# Altium footprint library FQFP (0.4mm Pitch, Square) - Corner Index.PcbLib: 26 footprints (part 1 of 3)
Each footprint in its own frame and in the unit in brackets; x right, y up, seen from the top. Pads: shape width x height; smd on the part's side, far side on the other; paste and mask are expansions set on the pad; w line width, h text height; cw(c..) or ccw(c..) is an arc to the next point about the centre after c.
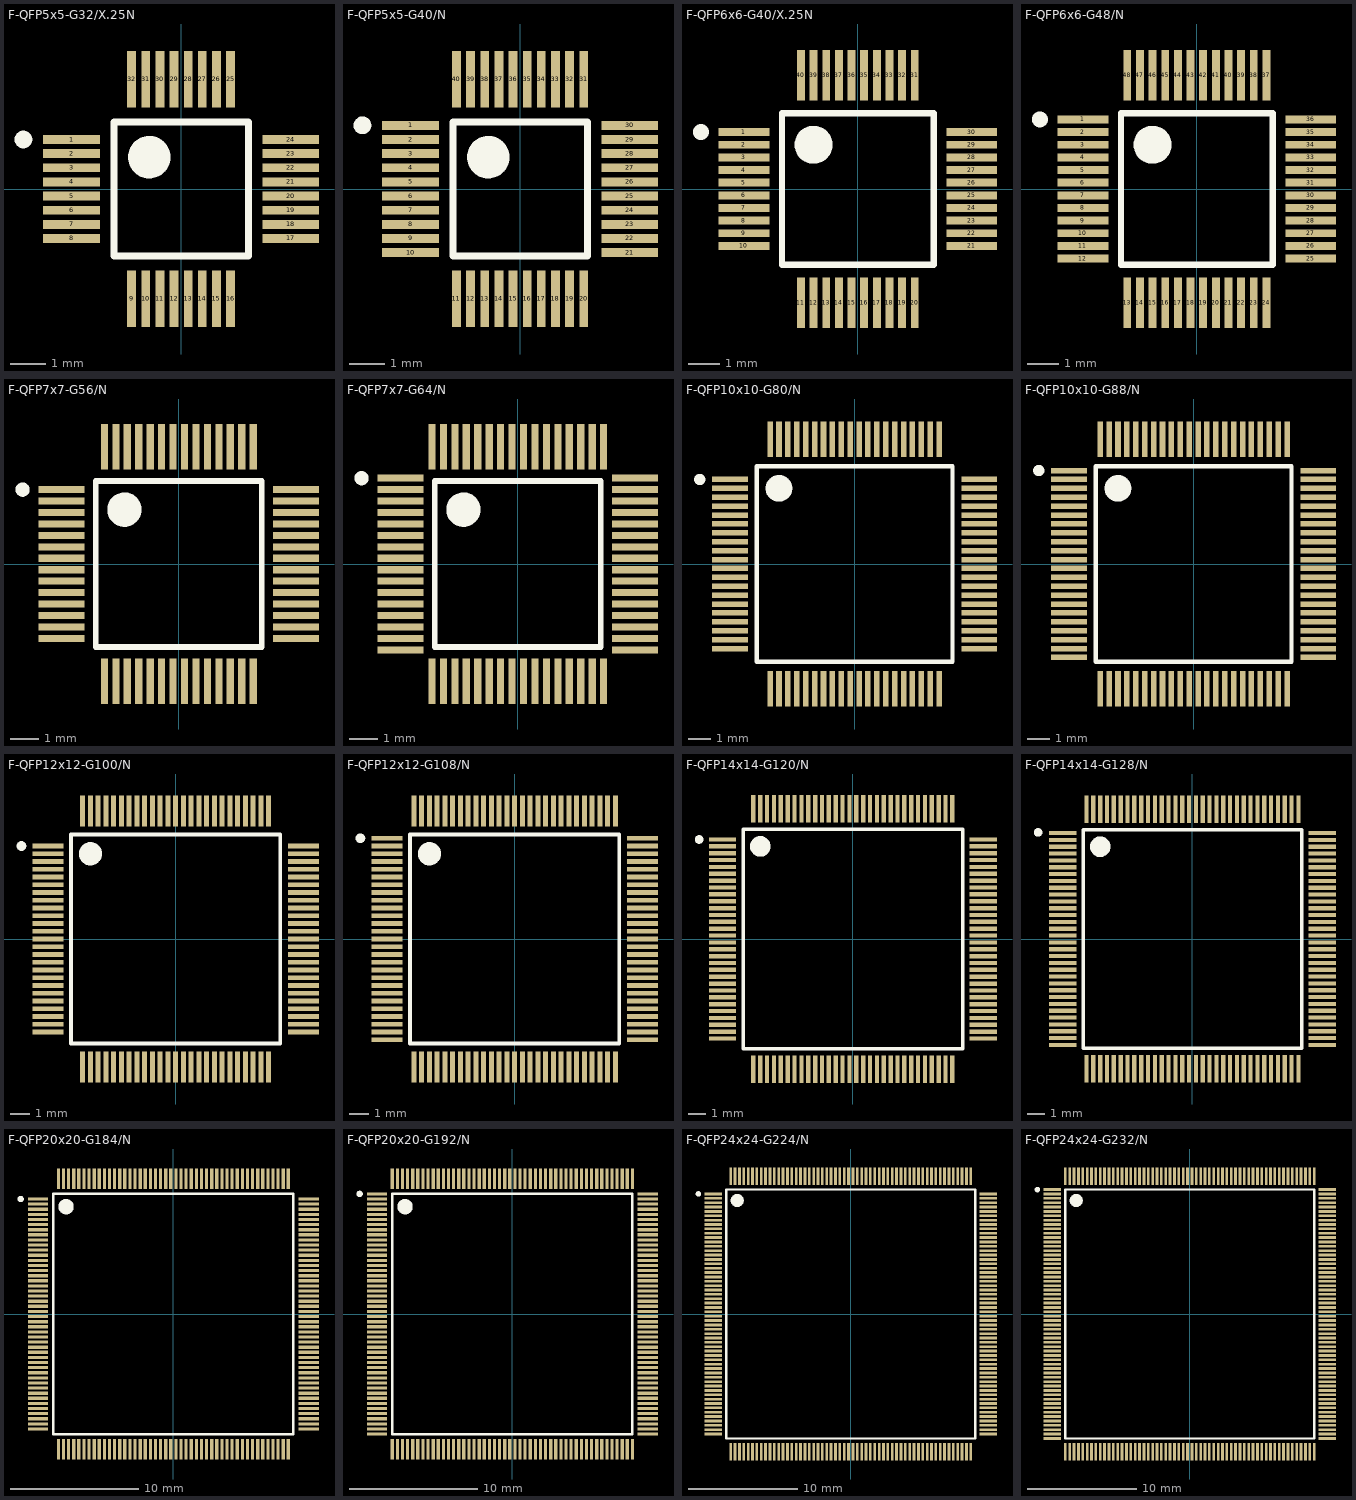
[diagram p0: the footprints below, top view; thin cyan lines are the x and y axes]

## F-QFP5x5-G32/X.25N [mm] "QFP; 32 Leads; Body 5 x 5 mm; Pitch 0.4 mm"
height 1.7
pads (32):
  rect 1.6x0.25 smd: 1(-3.1,1.4) 2(-3.1,1) 3(-3.1,0.6) 4(-3.1,0.2) 5(-3.1,-0.2) 6(-3.1,-0.6) 7(-3.1,-1) 8(-3.1,-1.4) 17(3.1,-1.4) 18(3.1,-1) 19(3.1,-0.6) 20(3.1,-0.2) 21(3.1,0.2) 22(3.1,0.6) 23(3.1,1) 24(3.1,1.4)
  rect 0.25x1.6 smd: 9(-1.4,-3.1) 10(-1,-3.1) 11(-0.6,-3.1) 12(-0.2,-3.1) 13(0.2,-3.1) 14(0.6,-3.1) 15(1,-3.1) 16(1.4,-3.1) 25(1.4,3.1) 26(1,3.1) 27(0.6,3.1) 28(0.2,3.1) 29(-0.2,3.1) 30(-0.6,3.1) 31(-1,3.1) 32(-1.4,3.1)
Top Overlay:
  circle w0.25: c-4.46,1.4 r0.125
  circle w0.6: c-0.9,0.9 r0.3
  lines w0.2: -1.9,-1.9 1.9,-1.9 1.9,1.9 -1.9,1.9 -1.9,-1.9

## F-QFP5x5-G40/N [mm] "QFP; 40 Leads; Body 5 x 5 mm; Pitch 0.4 mm"
height 1.7
pads (40):
  rect 1.6x0.25 smd: 1(-3.1,1.8) 2(-3.1,1.4) 3(-3.1,1) 4(-3.1,0.6) 5(-3.1,0.2) 6(-3.1,-0.2) 7(-3.1,-0.6) 8(-3.1,-1) 9(-3.1,-1.4) 10(-3.1,-1.8) 21(3.1,-1.8) 22(3.1,-1.4) 23(3.1,-1) 24(3.1,-0.6) 25(3.1,-0.2) 26(3.1,0.2) 27(3.1,0.6) 28(3.1,1) 29(3.1,1.4) 30(3.1,1.8)
  rect 0.25x1.6 smd: 11(-1.8,-3.1) 12(-1.4,-3.1) 13(-1,-3.1) 14(-0.6,-3.1) 15(-0.2,-3.1) 16(0.2,-3.1) 17(0.6,-3.1) 18(1,-3.1) 19(1.4,-3.1) 20(1.8,-3.1) 31(1.8,3.1) 32(1.4,3.1) 33(1,3.1) 34(0.6,3.1) 35(0.2,3.1) 36(-0.2,3.1) 37(-0.6,3.1) 38(-1,3.1) 39(-1.4,3.1) 40(-1.8,3.1)
Top Overlay:
  circle w0.25: c-4.46,1.8 r0.125
  circle w0.6: c-0.9,0.9 r0.3
  lines w0.2: -1.9,-1.9 -1.9,1.9 1.9,1.9 1.9,-1.9 -1.9,-1.9

## F-QFP6x6-G40/X.25N [mm] "QFP; 40 Leads; Body 6 x 6 mm; Pitch 0.4 mm"
height 1.7
pads (40):
  rect 1.6x0.25 smd: 1(-3.6,1.8) 2(-3.6,1.4) 3(-3.6,1) 4(-3.6,0.6) 5(-3.6,0.2) 6(-3.6,-0.2) 7(-3.6,-0.6) 8(-3.6,-1) 9(-3.6,-1.4) 10(-3.6,-1.8) 21(3.6,-1.8) 22(3.6,-1.4) 23(3.6,-1) 24(3.6,-0.6) 25(3.6,-0.2) 26(3.6,0.2) 27(3.6,0.6) 28(3.6,1) 29(3.6,1.4) 30(3.6,1.8)
  rect 0.25x1.6 smd: 11(-1.8,-3.6) 12(-1.4,-3.6) 13(-1,-3.6) 14(-0.6,-3.6) 15(-0.2,-3.6) 16(0.2,-3.6) 17(0.6,-3.6) 18(1,-3.6) 19(1.4,-3.6) 20(1.8,-3.6) 31(1.8,3.6) 32(1.4,3.6) 33(1,3.6) 34(0.6,3.6) 35(0.2,3.6) 36(-0.2,3.6) 37(-0.6,3.6) 38(-1,3.6) 39(-1.4,3.6) 40(-1.8,3.6)
Top Overlay:
  circle w0.25: c-4.96,1.8 r0.125
  circle w0.6: c-1.4,1.4 r0.3
  lines w0.2: -2.4,-2.4 -2.4,2.4 2.4,2.4 2.4,-2.4 -2.4,-2.4

## F-QFP6x6-G48/N [mm] "QFP; 48 Leads; Body 6 x 6 mm; Pitch 0.4 mm"
height 1.7
pads (48):
  rect 1.6x0.25 smd: 1(-3.6,2.2) 2(-3.6,1.8) 3(-3.6,1.4) 4(-3.6,1) 5(-3.6,0.6) 6(-3.6,0.2) 7(-3.6,-0.2) 8(-3.6,-0.6) 9(-3.6,-1) 10(-3.6,-1.4) 11(-3.6,-1.8) 12(-3.6,-2.2) 25(3.6,-2.2) 26(3.6,-1.8) 27(3.6,-1.4) 28(3.6,-1) 29(3.6,-0.6) 30(3.6,-0.2) 31(3.6,0.2) 32(3.6,0.6) 33(3.6,1) 34(3.6,1.4) 35(3.6,1.8) 36(3.6,2.2)
  rect 0.25x1.6 smd: 13(-2.2,-3.6) 14(-1.8,-3.6) 15(-1.4,-3.6) 16(-1,-3.6) 17(-0.6,-3.6) 18(-0.2,-3.6) 19(0.2,-3.6) 20(0.6,-3.6) 21(1,-3.6) 22(1.4,-3.6) 23(1.8,-3.6) 24(2.2,-3.6) 37(2.2,3.6) 38(1.8,3.6) 39(1.4,3.6) 40(1,3.6) 41(0.6,3.6) 42(0.2,3.6) 43(-0.2,3.6) 44(-0.6,3.6) 45(-1,3.6) 46(-1.4,3.6) 47(-1.8,3.6) 48(-2.2,3.6)
Top Overlay:
  circle w0.25: c-4.96,2.2 r0.125
  circle w0.6: c-1.4,1.4 r0.3
  lines w0.2: -2.4,-2.4 -2.4,2.4 2.4,2.4 2.4,-2.4 -2.4,-2.4

## F-QFP7x7-G56/N [mm] "QFP; 56 Leads; Body 7 x 7 mm; Pitch 0.4 mm"
height 1.7
pads (56):
  rect 1.6x0.25 smd: 1(-4.1,2.6) 2(-4.1,2.2) 3(-4.1,1.8) 4(-4.1,1.4) 5(-4.1,1) 6(-4.1,0.6) 7(-4.1,0.2) 8(-4.1,-0.2) 9(-4.1,-0.6) 10(-4.1,-1) 11(-4.1,-1.4) 12(-4.1,-1.8) 13(-4.1,-2.2) 14(-4.1,-2.6) 29(4.1,-2.6) 30(4.1,-2.2) 31(4.1,-1.8) 32(4.1,-1.4) 33(4.1,-1) 34(4.1,-0.6) 35(4.1,-0.2) 36(4.1,0.2) 37(4.1,0.6) 38(4.1,1) 39(4.1,1.4) 40(4.1,1.8) 41(4.1,2.2) 42(4.1,2.6)
  rect 0.25x1.6 smd: 15(-2.6,-4.1) 16(-2.2,-4.1) 17(-1.8,-4.1) 18(-1.4,-4.1) 19(-1,-4.1) 20(-0.6,-4.1) 21(-0.2,-4.1) 22(0.2,-4.1) 23(0.6,-4.1) 24(1,-4.1) 25(1.4,-4.1) 26(1.8,-4.1) 27(2.2,-4.1) 28(2.6,-4.1) 43(2.6,4.1) 44(2.2,4.1) 45(1.8,4.1) 46(1.4,4.1) 47(1,4.1) 48(0.6,4.1) 49(0.2,4.1) 50(-0.2,4.1) 51(-0.6,4.1) 52(-1,4.1) 53(-1.4,4.1) 54(-1.8,4.1) 55(-2.2,4.1) 56(-2.6,4.1)
Top Overlay:
  circle w0.25: c-5.46,2.6 r0.125
  circle w0.6: c-1.9,1.9 r0.3
  lines w0.2: -2.9,-2.9 -2.9,2.9 2.9,2.9 2.9,-2.9 -2.9,-2.9

## F-QFP7x7-G64/N [mm] "QFP; 64 Leads; Body 7 x 7 mm; Pitch 0.4 mm"
height 1.7
pads (64):
  rect 1.6x0.25 smd: 1(-4.1,3) 2(-4.1,2.6) 3(-4.1,2.2) 4(-4.1,1.8) 5(-4.1,1.4) 6(-4.1,1) 7(-4.1,0.6) 8(-4.1,0.2) 9(-4.1,-0.2) 10(-4.1,-0.6) 11(-4.1,-1) 12(-4.1,-1.4) 13(-4.1,-1.8) 14(-4.1,-2.2) 15(-4.1,-2.6) 16(-4.1,-3) 33(4.1,-3) 34(4.1,-2.6) 35(4.1,-2.2) 36(4.1,-1.8) 37(4.1,-1.4) 38(4.1,-1) 39(4.1,-0.6) 40(4.1,-0.2) 41(4.1,0.2) 42(4.1,0.6) 43(4.1,1) 44(4.1,1.4) 45(4.1,1.8) 46(4.1,2.2) 47(4.1,2.6) 48(4.1,3)
  rect 0.25x1.6 smd: 17(-3,-4.1) 18(-2.6,-4.1) 19(-2.2,-4.1) 20(-1.8,-4.1) 21(-1.4,-4.1) 22(-1,-4.1) 23(-0.6,-4.1) 24(-0.2,-4.1) 25(0.2,-4.1) 26(0.6,-4.1) 27(1,-4.1) 28(1.4,-4.1) 29(1.8,-4.1) 30(2.2,-4.1) 31(2.6,-4.1) 32(3,-4.1) 49(3,4.1) 50(2.6,4.1) 51(2.2,4.1) 52(1.8,4.1) 53(1.4,4.1) 54(1,4.1) 55(0.6,4.1) 56(0.2,4.1) 57(-0.2,4.1) 58(-0.6,4.1) 59(-1,4.1) 60(-1.4,4.1) 61(-1.8,4.1) 62(-2.2,4.1) 63(-2.6,4.1) 64(-3,4.1)
Top Overlay:
  circle w0.25: c-5.46,3 r0.125
  circle w0.6: c-1.9,1.9 r0.3
  lines w0.2: -2.9,-2.9 -2.9,2.9 2.9,2.9 2.9,-2.9 -2.9,-2.9

## F-QFP10x10-G80/N [mm] "QFP; 80 Leads; Body 10 x 10 mm; Pitch 0.4 mm"
height 2.2
pads (80):
  rect 1.6x0.25 smd: 1(-5.6,3.8) 2(-5.6,3.4) 3(-5.6,3) 4(-5.6,2.6) 5(-5.6,2.2) 6(-5.6,1.8) 7(-5.6,1.4) 8(-5.6,1) 9(-5.6,0.6) 10(-5.6,0.2) 11(-5.6,-0.2) 12(-5.6,-0.6) 13(-5.6,-1) 14(-5.6,-1.4) 15(-5.6,-1.8) 16(-5.6,-2.2) 17(-5.6,-2.6) 18(-5.6,-3) 19(-5.6,-3.4) 20(-5.6,-3.8) 41(5.6,-3.8) 42(5.6,-3.4) 43(5.6,-3) 44(5.6,-2.6) 45(5.6,-2.2) 46(5.6,-1.8) 47(5.6,-1.4) 48(5.6,-1) 49(5.6,-0.6) 50(5.6,-0.2) 51(5.6,0.2) 52(5.6,0.6) 53(5.6,1) 54(5.6,1.4) 55(5.6,1.8) 56(5.6,2.2) 57(5.6,2.6) 58(5.6,3) 59(5.6,3.4) 60(5.6,3.8)
  rect 0.25x1.6 smd: 21(-3.8,-5.6) 22(-3.4,-5.6) 23(-3,-5.6) 24(-2.6,-5.6) 25(-2.2,-5.6) 26(-1.8,-5.6) 27(-1.4,-5.6) 28(-1,-5.6) 29(-0.6,-5.6) 30(-0.2,-5.6) 31(0.2,-5.6) 32(0.6,-5.6) 33(1,-5.6) 34(1.4,-5.6) 35(1.8,-5.6) 36(2.2,-5.6) 37(2.6,-5.6) 38(3,-5.6) 39(3.4,-5.6) 40(3.8,-5.6) 61(3.8,5.6) 62(3.4,5.6) 63(3,5.6) 64(2.6,5.6) 65(2.2,5.6) 66(1.8,5.6) 67(1.4,5.6) 68(1,5.6) 69(0.6,5.6) 70(0.2,5.6) 71(-0.2,5.6) 72(-0.6,5.6) 73(-1,5.6) 74(-1.4,5.6) 75(-1.8,5.6) 76(-2.2,5.6) 77(-2.6,5.6) 78(-3,5.6) 79(-3.4,5.6) 80(-3.8,5.6)
Top Overlay:
  circle w0.6: c-3.4,3.4 r0.3
  circle w0.25: c-6.96,3.8 r0.125
  lines w0.2: -4.4,-4.4 4.4,-4.4 4.4,4.4 -4.4,4.4 -4.4,-4.4

## F-QFP10x10-G88/N [mm] "QFP; 88 Leads; Body 10 x 10 mm; Pitch 0.4 mm"
height 2.2
pads (88):
  rect 1.6x0.25 smd: 1(-5.6,4.2) 2(-5.6,3.8) 3(-5.6,3.4) 4(-5.6,3) 5(-5.6,2.6) 6(-5.6,2.2) 7(-5.6,1.8) 8(-5.6,1.4) 9(-5.6,1) 10(-5.6,0.6) 11(-5.6,0.2) 12(-5.6,-0.2) 13(-5.6,-0.6) 14(-5.6,-1) 15(-5.6,-1.4) 16(-5.6,-1.8) 17(-5.6,-2.2) 18(-5.6,-2.6) 19(-5.6,-3) 20(-5.6,-3.4) 21(-5.6,-3.8) 22(-5.6,-4.2) 45(5.6,-4.2) 46(5.6,-3.8) 47(5.6,-3.4) 48(5.6,-3) 49(5.6,-2.6) 50(5.6,-2.2) 51(5.6,-1.8) 52(5.6,-1.4) 53(5.6,-1) 54(5.6,-0.6) 55(5.6,-0.2) 56(5.6,0.2) 57(5.6,0.6) 58(5.6,1) 59(5.6,1.4) 60(5.6,1.8) 61(5.6,2.2) 62(5.6,2.6) 63(5.6,3) 64(5.6,3.4) 65(5.6,3.8) 66(5.6,4.2)
  rect 0.25x1.6 smd: 23(-4.2,-5.6) 24(-3.8,-5.6) 25(-3.4,-5.6) 26(-3,-5.6) 27(-2.6,-5.6) 28(-2.2,-5.6) 29(-1.8,-5.6) 30(-1.4,-5.6) 31(-1,-5.6) 32(-0.6,-5.6) 33(-0.2,-5.6) 34(0.2,-5.6) 35(0.6,-5.6) 36(1,-5.6) 37(1.4,-5.6) 38(1.8,-5.6) 39(2.2,-5.6) 40(2.6,-5.6) 41(3,-5.6) 42(3.4,-5.6) 43(3.8,-5.6) 44(4.2,-5.6) 67(4.2,5.6) 68(3.8,5.6) 69(3.4,5.6) 70(3,5.6) 71(2.6,5.6) 72(2.2,5.6) 73(1.8,5.6) 74(1.4,5.6) 75(1,5.6) 76(0.6,5.6) 77(0.2,5.6) 78(-0.2,5.6) 79(-0.6,5.6) 80(-1,5.6) 81(-1.4,5.6) 82(-1.8,5.6) 83(-2.2,5.6) 84(-2.6,5.6) 85(-3,5.6) 86(-3.4,5.6) 87(-3.8,5.6) 88(-4.2,5.6)
Top Overlay:
  circle w0.6: c-3.4,3.4 r0.3
  circle w0.25: c-6.96,4.2 r0.125
  lines w0.2: -4.4,-4.4 4.4,-4.4 4.4,4.4 -4.4,4.4 -4.4,-4.4

## F-QFP12x12-G100/N [mm] "QFP; 100 Leads; Body 12 x 12 mm; Pitch 0.4 mm"
height 2.2
pads (100):
  rect 1.6x0.25 smd: 1(-6.6,4.8) 2(-6.6,4.4) 3(-6.6,4) 4(-6.6,3.6) 5(-6.6,3.2) 6(-6.6,2.8) 7(-6.6,2.4) 8(-6.6,2) 9(-6.6,1.6) 10(-6.6,1.2) 11(-6.6,0.8) 12(-6.6,0.4) 13(-6.6,0) 14(-6.6,-0.4) 15(-6.6,-0.8) 16(-6.6,-1.2) 17(-6.6,-1.6) 18(-6.6,-2) 19(-6.6,-2.4) 20(-6.6,-2.8) 21(-6.6,-3.2) 22(-6.6,-3.6) 23(-6.6,-4) 24(-6.6,-4.4) 25(-6.6,-4.8) 51(6.6,-4.8) 52(6.6,-4.4) 53(6.6,-4) 54(6.6,-3.6) 55(6.6,-3.2) 56(6.6,-2.8) 57(6.6,-2.4) 58(6.6,-2) 59(6.6,-1.6) 60(6.6,-1.2) 61(6.6,-0.8) 62(6.6,-0.4) 63(6.6,0) 64(6.6,0.4) 65(6.6,0.8) 66(6.6,1.2) 67(6.6,1.6) 68(6.6,2) 69(6.6,2.4) 70(6.6,2.8) 71(6.6,3.2) 72(6.6,3.6) 73(6.6,4) 74(6.6,4.4) 75(6.6,4.8)
  rect 0.25x1.6 smd: 26(-4.8,-6.6) 27(-4.4,-6.6) 28(-4,-6.6) 29(-3.6,-6.6) 30(-3.2,-6.6) 31(-2.8,-6.6) 32(-2.4,-6.6) 33(-2,-6.6) 34(-1.6,-6.6) 35(-1.2,-6.6) 36(-0.8,-6.6) 37(-0.4,-6.6) 38(0,-6.6) 39(0.4,-6.6) 40(0.8,-6.6) 41(1.2,-6.6) 42(1.6,-6.6) 43(2,-6.6) 44(2.4,-6.6) 45(2.8,-6.6) 46(3.2,-6.6) 47(3.6,-6.6) 48(4,-6.6) 49(4.4,-6.6) 50(4.8,-6.6) 76(4.8,6.6) 77(4.4,6.6) 78(4,6.6) 79(3.6,6.6) 80(3.2,6.6) 81(2.8,6.6) 82(2.4,6.6) 83(2,6.6) 84(1.6,6.6) 85(1.2,6.6) 86(0.8,6.6) 87(0.4,6.6) 88(0,6.6) 89(-0.4,6.6) 90(-0.8,6.6) 91(-1.2,6.6) 92(-1.6,6.6) 93(-2,6.6) 94(-2.4,6.6) 95(-2.8,6.6) 96(-3.2,6.6) 97(-3.6,6.6) 98(-4,6.6) 99(-4.4,6.6) 100(-4.8,6.6)
Top Overlay:
  circle w0.6: c-4.4,4.4 r0.3
  circle w0.25: c-7.96,4.8 r0.125
  lines w0.2: -5.4,-5.4 5.4,-5.4 5.4,5.4 -5.4,5.4 -5.4,-5.4

## F-QFP12x12-G108/N [mm] "QFP; 108 Leads; Body 12 x 12 mm; Pitch 0.4 mm"
height 2.2
pads (108):
  rect 1.6x0.25 smd: 1(-6.6,5.2) 2(-6.6,4.8) 3(-6.6,4.4) 4(-6.6,4) 5(-6.6,3.6) 6(-6.6,3.2) 7(-6.6,2.8) 8(-6.6,2.4) 9(-6.6,2) 10(-6.6,1.6) 11(-6.6,1.2) 12(-6.6,0.8) 13(-6.6,0.4) 14(-6.6,0) 15(-6.6,-0.4) 16(-6.6,-0.8) 17(-6.6,-1.2) 18(-6.6,-1.6) 19(-6.6,-2) 20(-6.6,-2.4) 21(-6.6,-2.8) 22(-6.6,-3.2) 23(-6.6,-3.6) 24(-6.6,-4) 25(-6.6,-4.4) 26(-6.6,-4.8) 27(-6.6,-5.2) 55(6.6,-5.2) 56(6.6,-4.8) 57(6.6,-4.4) 58(6.6,-4) 59(6.6,-3.6) 60(6.6,-3.2) 61(6.6,-2.8) 62(6.6,-2.4) 63(6.6,-2) 64(6.6,-1.6) 65(6.6,-1.2) 66(6.6,-0.8) 67(6.6,-0.4) 68(6.6,0) 69(6.6,0.4) 70(6.6,0.8) 71(6.6,1.2) 72(6.6,1.6) 73(6.6,2) 74(6.6,2.4) 75(6.6,2.8) 76(6.6,3.2) 77(6.6,3.6) 78(6.6,4) 79(6.6,4.4) 80(6.6,4.8) 81(6.6,5.2)
  rect 0.25x1.6 smd: 28(-5.2,-6.6) 29(-4.8,-6.6) 30(-4.4,-6.6) 31(-4,-6.6) 32(-3.6,-6.6) 33(-3.2,-6.6) 34(-2.8,-6.6) 35(-2.4,-6.6) 36(-2,-6.6) 37(-1.6,-6.6) 38(-1.2,-6.6) 39(-0.8,-6.6) 40(-0.4,-6.6) 41(0,-6.6) 42(0.4,-6.6) 43(0.8,-6.6) 44(1.2,-6.6) 45(1.6,-6.6) 46(2,-6.6) 47(2.4,-6.6) 48(2.8,-6.6) 49(3.2,-6.6) 50(3.6,-6.6) 51(4,-6.6) 52(4.4,-6.6) 53(4.8,-6.6) 54(5.2,-6.6) 82(5.2,6.6) 83(4.8,6.6) 84(4.4,6.6) 85(4,6.6) 86(3.6,6.6) 87(3.2,6.6) 88(2.8,6.6) 89(2.4,6.6) 90(2,6.6) 91(1.6,6.6) 92(1.2,6.6) 93(0.8,6.6) 94(0.4,6.6) 95(0,6.6) 96(-0.4,6.6) 97(-0.8,6.6) 98(-1.2,6.6) 99(-1.6,6.6) 100(-2,6.6) 101(-2.4,6.6) 102(-2.8,6.6) 103(-3.2,6.6) 104(-3.6,6.6) 105(-4,6.6) 106(-4.4,6.6) 107(-4.8,6.6) 108(-5.2,6.6)
Top Overlay:
  circle w0.6: c-4.4,4.4 r0.3
  circle w0.25: c-7.96,5.2 r0.125
  lines w0.2: -5.4,-5.4 5.4,-5.4 5.4,5.4 -5.4,5.4 -5.4,-5.4

## F-QFP14x14-G120/N [mm] "QFP; 120 Leads; Body 14 x 14 mm; Pitch 0.4 mm"
height 2.2
pads (120):
  rect 1.6x0.25 smd: 1(-7.6,5.8) 2(-7.6,5.4) 3(-7.6,5) 4(-7.6,4.6) 5(-7.6,4.2) 6(-7.6,3.8) 7(-7.6,3.4) 8(-7.6,3) 9(-7.6,2.6) 10(-7.6,2.2) 11(-7.6,1.8) 12(-7.6,1.4) 13(-7.6,1) 14(-7.6,0.6) 15(-7.6,0.2) 16(-7.6,-0.2) 17(-7.6,-0.6) 18(-7.6,-1) 19(-7.6,-1.4) 20(-7.6,-1.8) 21(-7.6,-2.2) 22(-7.6,-2.6) 23(-7.6,-3) 24(-7.6,-3.4) 25(-7.6,-3.8) 26(-7.6,-4.2) 27(-7.6,-4.6) 28(-7.6,-5) 29(-7.6,-5.4) 30(-7.6,-5.8) 61(7.6,-5.8) 62(7.6,-5.4) 63(7.6,-5) 64(7.6,-4.6) 65(7.6,-4.2) 66(7.6,-3.8) 67(7.6,-3.4) 68(7.6,-3) 69(7.6,-2.6) 70(7.6,-2.2) 71(7.6,-1.8) 72(7.6,-1.4) 73(7.6,-1) 74(7.6,-0.6) 75(7.6,-0.2) 76(7.6,0.2) 77(7.6,0.6) 78(7.6,1) 79(7.6,1.4) 80(7.6,1.8) 81(7.6,2.2) 82(7.6,2.6) 83(7.6,3) 84(7.6,3.4) 85(7.6,3.8) 86(7.6,4.2) 87(7.6,4.6) 88(7.6,5) 89(7.6,5.4) 90(7.6,5.8)
  rect 0.25x1.6 smd: 31(-5.8,-7.6) 32(-5.4,-7.6) 33(-5,-7.6) 34(-4.6,-7.6) 35(-4.2,-7.6) 36(-3.8,-7.6) 37(-3.4,-7.6) 38(-3,-7.6) 39(-2.6,-7.6) 40(-2.2,-7.6) 41(-1.8,-7.6) 42(-1.4,-7.6) 43(-1,-7.6) 44(-0.6,-7.6) 45(-0.2,-7.6) 46(0.2,-7.6) 47(0.6,-7.6) 48(1,-7.6) 49(1.4,-7.6) 50(1.8,-7.6) 51(2.2,-7.6) 52(2.6,-7.6) 53(3,-7.6) 54(3.4,-7.6) 55(3.8,-7.6) 56(4.2,-7.6) 57(4.6,-7.6) 58(5,-7.6) 59(5.4,-7.6) 60(5.8,-7.6) 91(5.8,7.6) 92(5.4,7.6) 93(5,7.6) 94(4.6,7.6) 95(4.2,7.6) 96(3.8,7.6) 97(3.4,7.6) 98(3,7.6) 99(2.6,7.6) 100(2.2,7.6) 101(1.8,7.6) 102(1.4,7.6) 103(1,7.6) 104(0.6,7.6) 105(0.2,7.6) 106(-0.2,7.6) 107(-0.6,7.6) 108(-1,7.6) 109(-1.4,7.6) 110(-1.8,7.6) 111(-2.2,7.6) 112(-2.6,7.6) 113(-3,7.6) 114(-3.4,7.6) 115(-3.8,7.6) 116(-4.2,7.6) 117(-4.6,7.6) 118(-5,7.6) 119(-5.4,7.6) 120(-5.8,7.6)
Top Overlay:
  circle w0.25: c-8.96,5.8 r0.125
  circle w0.6: c-5.4,5.4 r0.3
  lines w0.2: -6.4,-6.4 -6.4,6.4 6.4,6.4 6.4,-6.4 -6.4,-6.4

## F-QFP14x14-G128/N [mm] "QFP; 128 Leads; Body 14 x 14 mm; Pitch 0.4 mm"
height 2.2
pads (128):
  rect 1.6x0.25 smd: 1(-7.6,6.2) 2(-7.6,5.8) 3(-7.6,5.4) 4(-7.6,5) 5(-7.6,4.6) 6(-7.6,4.2) 7(-7.6,3.8) 8(-7.6,3.4) 9(-7.6,3) 10(-7.6,2.6) 11(-7.6,2.2) 12(-7.6,1.8) 13(-7.6,1.4) 14(-7.6,1) 15(-7.6,0.6) 16(-7.6,0.2) 17(-7.6,-0.2) 18(-7.6,-0.6) 19(-7.6,-1) 20(-7.6,-1.4) 21(-7.6,-1.8) 22(-7.6,-2.2) 23(-7.6,-2.6) 24(-7.6,-3) 25(-7.6,-3.4) 26(-7.6,-3.8) 27(-7.6,-4.2) 28(-7.6,-4.6) 29(-7.6,-5) 30(-7.6,-5.4) 31(-7.6,-5.8) 32(-7.6,-6.2) 65(7.6,-6.2) 66(7.6,-5.8) 67(7.6,-5.4) 68(7.6,-5) 69(7.6,-4.6) 70(7.6,-4.2) 71(7.6,-3.8) 72(7.6,-3.4) 73(7.6,-3) 74(7.6,-2.6) 75(7.6,-2.2) 76(7.6,-1.8) 77(7.6,-1.4) 78(7.6,-1) 79(7.6,-0.6) 80(7.6,-0.2) 81(7.6,0.2) 82(7.6,0.6) 83(7.6,1) 84(7.6,1.4) 85(7.6,1.8) 86(7.6,2.2) 87(7.6,2.6) 88(7.6,3) 89(7.6,3.4) 90(7.6,3.8) 91(7.6,4.2) 92(7.6,4.6) 93(7.6,5) 94(7.6,5.4) 95(7.6,5.8) 96(7.6,6.2)
  rect 0.25x1.6 smd: 33(-6.2,-7.6) 34(-5.8,-7.6) 35(-5.4,-7.6) 36(-5,-7.6) 37(-4.6,-7.6) 38(-4.2,-7.6) 39(-3.8,-7.6) 40(-3.4,-7.6) 41(-3,-7.6) 42(-2.6,-7.6) 43(-2.2,-7.6) 44(-1.8,-7.6) 45(-1.4,-7.6) 46(-1,-7.6) 47(-0.6,-7.6) 48(-0.2,-7.6) 49(0.2,-7.6) 50(0.6,-7.6) 51(1,-7.6) 52(1.4,-7.6) 53(1.8,-7.6) 54(2.2,-7.6) 55(2.6,-7.6) 56(3,-7.6) 57(3.4,-7.6) 58(3.8,-7.6) 59(4.2,-7.6) 60(4.6,-7.6) 61(5,-7.6) 62(5.4,-7.6) 63(5.8,-7.6) 64(6.2,-7.6) 97(6.2,7.6) 98(5.8,7.6) 99(5.4,7.6) 100(5,7.6) 101(4.6,7.6) 102(4.2,7.6) 103(3.8,7.6) 104(3.4,7.6) 105(3,7.6) 106(2.6,7.6) 107(2.2,7.6) 108(1.8,7.6) 109(1.4,7.6) 110(1,7.6) 111(0.6,7.6) 112(0.2,7.6) 113(-0.2,7.6) 114(-0.6,7.6) 115(-1,7.6) 116(-1.4,7.6) 117(-1.8,7.6) 118(-2.2,7.6) 119(-2.6,7.6) 120(-3,7.6) 121(-3.4,7.6) 122(-3.8,7.6) 123(-4.2,7.6) 124(-4.6,7.6) 125(-5,7.6) 126(-5.4,7.6) 127(-5.8,7.6) 128(-6.2,7.6)
Top Overlay:
  circle w0.6: c-5.4,5.4 r0.3
  circle w0.25: c-9.033,6.239 r0.125
  lines w0.2: -6.4,-6.4 -6.4,6.4 6.4,6.4 6.4,-6.4 -6.4,-6.4

## F-QFP20x20-G184/N [mm] "QFP; 184 Leads; Body 20 x 20 mm; Pitch 0.4 mm"
height 2.7
pads (184):
  rect 1.6x0.25 smd: 1(-10.6,9) 2(-10.6,8.6) 3(-10.6,8.2) 4(-10.6,7.8) 5(-10.6,7.4) 6(-10.6,7) 7(-10.6,6.6) 8(-10.6,6.2) 9(-10.6,5.8) 10(-10.6,5.4) 11(-10.6,5) 12(-10.6,4.6) 13(-10.6,4.2) 14(-10.6,3.8) 15(-10.6,3.4) 16(-10.6,3) 17(-10.6,2.6) 18(-10.6,2.2) 19(-10.6,1.8) 20(-10.6,1.4) 21(-10.6,1) 22(-10.6,0.6) 23(-10.6,0.2) 24(-10.6,-0.2) 25(-10.6,-0.6) 26(-10.6,-1) 27(-10.6,-1.4) 28(-10.6,-1.8) 29(-10.6,-2.2) 30(-10.6,-2.6) 31(-10.6,-3) 32(-10.6,-3.4) 33(-10.6,-3.8) 34(-10.6,-4.2) 35(-10.6,-4.6) 36(-10.6,-5) 37(-10.6,-5.4) 38(-10.6,-5.8) 39(-10.6,-6.2) 40(-10.6,-6.6) 41(-10.6,-7) 42(-10.6,-7.4) 43(-10.6,-7.8) 44(-10.6,-8.2) 45(-10.6,-8.6) 46(-10.6,-9) 93(10.6,-9) 94(10.6,-8.6) 95(10.6,-8.2) 96(10.6,-7.8) 97(10.6,-7.4) 98(10.6,-7) 99(10.6,-6.6) 100(10.6,-6.2) 101(10.6,-5.8) 102(10.6,-5.4) 103(10.6,-5) 104(10.6,-4.6) 105(10.6,-4.2) 106(10.6,-3.8) 107(10.6,-3.4) 108(10.6,-3) 109(10.6,-2.6) 110(10.6,-2.2) 111(10.6,-1.8) 112(10.6,-1.4) 113(10.6,-1) 114(10.6,-0.6) 115(10.6,-0.2) 116(10.6,0.2) 117(10.6,0.6) 118(10.6,1) 119(10.6,1.4) 120(10.6,1.8) 121(10.6,2.2) 122(10.6,2.6) 123(10.6,3) 124(10.6,3.4) 125(10.6,3.8) 126(10.6,4.2) 127(10.6,4.6) 128(10.6,5) 129(10.6,5.4) 130(10.6,5.8) 131(10.6,6.2) 132(10.6,6.6) 133(10.6,7) 134(10.6,7.4) 135(10.6,7.8) 136(10.6,8.2) 137(10.6,8.6) 138(10.6,9)
  rect 0.25x1.6 smd: 47(-9,-10.6) 48(-8.6,-10.6) 49(-8.2,-10.6) 50(-7.8,-10.6) 51(-7.4,-10.6) 52(-7,-10.6) 53(-6.6,-10.6) 54(-6.2,-10.6) 55(-5.8,-10.6) 56(-5.4,-10.6) 57(-5,-10.6) 58(-4.6,-10.6) 59(-4.2,-10.6) 60(-3.8,-10.6) 61(-3.4,-10.6) 62(-3,-10.6) 63(-2.6,-10.6) 64(-2.2,-10.6) 65(-1.8,-10.6) 66(-1.4,-10.6) 67(-1,-10.6) 68(-0.6,-10.6) 69(-0.2,-10.6) 70(0.2,-10.6) 71(0.6,-10.6) 72(1,-10.6) 73(1.4,-10.6) 74(1.8,-10.6) 75(2.2,-10.6) 76(2.6,-10.6) 77(3,-10.6) 78(3.4,-10.6) 79(3.8,-10.6) 80(4.2,-10.6) 81(4.6,-10.6) 82(5,-10.6) 83(5.4,-10.6) 84(5.8,-10.6) 85(6.2,-10.6) 86(6.6,-10.6) 87(7,-10.6) 88(7.4,-10.6) 89(7.8,-10.6) 90(8.2,-10.6) 91(8.6,-10.6) 92(9,-10.6) 139(9,10.6) 140(8.6,10.6) 141(8.2,10.6) 142(7.8,10.6) 143(7.4,10.6) 144(7,10.6) 145(6.6,10.6) 146(6.2,10.6) 147(5.8,10.6) 148(5.4,10.6) 149(5,10.6) 150(4.6,10.6) 151(4.2,10.6) 152(3.8,10.6) 153(3.4,10.6) 154(3,10.6) 155(2.6,10.6) 156(2.2,10.6) 157(1.8,10.6) 158(1.4,10.6) 159(1,10.6) 160(0.6,10.6) 161(0.2,10.6) 162(-0.2,10.6) 163(-0.6,10.6) 164(-1,10.6) 165(-1.4,10.6) 166(-1.8,10.6) 167(-2.2,10.6) 168(-2.6,10.6) 169(-3,10.6) 170(-3.4,10.6) 171(-3.8,10.6) 172(-4.2,10.6) 173(-4.6,10.6) 174(-5,10.6) 175(-5.4,10.6) 176(-5.8,10.6) 177(-6.2,10.6) 178(-6.6,10.6) 179(-7,10.6) 180(-7.4,10.6) 181(-7.8,10.6) 182(-8.2,10.6) 183(-8.6,10.6) 184(-9,10.6)
Top Overlay:
  circle w0.6: c-8.4,8.4 r0.3
  circle w0.25: c-11.96,9 r0.125
  lines w0.2: -9.4,-9.4 9.4,-9.4 9.4,9.4 -9.4,9.4 -9.4,-9.4

## F-QFP20x20-G192/N [mm] "QFP; 192 Leads; Body 20 x 20 mm; Pitch 0.4 mm"
height 2.7
pads (192):
  rect 1.6x0.25 smd: 1(-10.6,9.4) 2(-10.6,9) 3(-10.6,8.6) 4(-10.6,8.2) 5(-10.6,7.8) 6(-10.6,7.4) 7(-10.6,7) 8(-10.6,6.6) 9(-10.6,6.2) 10(-10.6,5.8) 11(-10.6,5.4) 12(-10.6,5) 13(-10.6,4.6) 14(-10.6,4.2) 15(-10.6,3.8) 16(-10.6,3.4) 17(-10.6,3) 18(-10.6,2.6) 19(-10.6,2.2) 20(-10.6,1.8) 21(-10.6,1.4) 22(-10.6,1) 23(-10.6,0.6) 24(-10.6,0.2) 25(-10.6,-0.2) 26(-10.6,-0.6) 27(-10.6,-1) 28(-10.6,-1.4) 29(-10.6,-1.8) 30(-10.6,-2.2) 31(-10.6,-2.6) 32(-10.6,-3) 33(-10.6,-3.4) 34(-10.6,-3.8) 35(-10.6,-4.2) 36(-10.6,-4.6) 37(-10.6,-5) 38(-10.6,-5.4) 39(-10.6,-5.8) 40(-10.6,-6.2) 41(-10.6,-6.6) 42(-10.6,-7) 43(-10.6,-7.4) 44(-10.6,-7.8) 45(-10.6,-8.2) 46(-10.6,-8.6) 47(-10.6,-9) 48(-10.6,-9.4) 97(10.6,-9.4) 98(10.6,-9) 99(10.6,-8.6) 100(10.6,-8.2) 101(10.6,-7.8) 102(10.6,-7.4) 103(10.6,-7) 104(10.6,-6.6) 105(10.6,-6.2) 106(10.6,-5.8) 107(10.6,-5.4) 108(10.6,-5) 109(10.6,-4.6) 110(10.6,-4.2) 111(10.6,-3.8) 112(10.6,-3.4) 113(10.6,-3) 114(10.6,-2.6) 115(10.6,-2.2) 116(10.6,-1.8) 117(10.6,-1.4) 118(10.6,-1) 119(10.6,-0.6) 120(10.6,-0.2) 121(10.6,0.2) 122(10.6,0.6) 123(10.6,1) 124(10.6,1.4) 125(10.6,1.8) 126(10.6,2.2) 127(10.6,2.6) 128(10.6,3) 129(10.6,3.4) 130(10.6,3.8) 131(10.6,4.2) 132(10.6,4.6) 133(10.6,5) 134(10.6,5.4) 135(10.6,5.8) 136(10.6,6.2) 137(10.6,6.6) 138(10.6,7) 139(10.6,7.4) 140(10.6,7.8) 141(10.6,8.2) 142(10.6,8.6) 143(10.6,9) 144(10.6,9.4)
  rect 0.25x1.6 smd: 49(-9.4,-10.6) 50(-9,-10.6) 51(-8.6,-10.6) 52(-8.2,-10.6) 53(-7.8,-10.6) 54(-7.4,-10.6) 55(-7,-10.6) 56(-6.6,-10.6) 57(-6.2,-10.6) 58(-5.8,-10.6) 59(-5.4,-10.6) 60(-5,-10.6) 61(-4.6,-10.6) 62(-4.2,-10.6) 63(-3.8,-10.6) 64(-3.4,-10.6) 65(-3,-10.6) 66(-2.6,-10.6) 67(-2.2,-10.6) 68(-1.8,-10.6) 69(-1.4,-10.6) 70(-1,-10.6) 71(-0.6,-10.6) 72(-0.2,-10.6) 73(0.2,-10.6) 74(0.6,-10.6) 75(1,-10.6) 76(1.4,-10.6) 77(1.8,-10.6) 78(2.2,-10.6) 79(2.6,-10.6) 80(3,-10.6) 81(3.4,-10.6) 82(3.8,-10.6) 83(4.2,-10.6) 84(4.6,-10.6) 85(5,-10.6) 86(5.4,-10.6) 87(5.8,-10.6) 88(6.2,-10.6) 89(6.6,-10.6) 90(7,-10.6) 91(7.4,-10.6) 92(7.8,-10.6) 93(8.2,-10.6) 94(8.6,-10.6) 95(9,-10.6) 96(9.4,-10.6) 145(9.4,10.6) 146(9,10.6) 147(8.6,10.6) 148(8.2,10.6) 149(7.8,10.6) 150(7.4,10.6) 151(7,10.6) 152(6.6,10.6) 153(6.2,10.6) 154(5.8,10.6) 155(5.4,10.6) 156(5,10.6) 157(4.6,10.6) 158(4.2,10.6) 159(3.8,10.6) 160(3.4,10.6) 161(3,10.6) 162(2.6,10.6) 163(2.2,10.6) 164(1.8,10.6) 165(1.4,10.6) 166(1,10.6) 167(0.6,10.6) 168(0.2,10.6) 169(-0.2,10.6) 170(-0.6,10.6) 171(-1,10.6) 172(-1.4,10.6) 173(-1.8,10.6) 174(-2.2,10.6) 175(-2.6,10.6) 176(-3,10.6) 177(-3.4,10.6) 178(-3.8,10.6) 179(-4.2,10.6) 180(-4.6,10.6) 181(-5,10.6) 182(-5.4,10.6) 183(-5.8,10.6) 184(-6.2,10.6) 185(-6.6,10.6) 186(-7,10.6) 187(-7.4,10.6) 188(-7.8,10.6) 189(-8.2,10.6) 190(-8.6,10.6) 191(-9,10.6) 192(-9.4,10.6)
Top Overlay:
  circle w0.6: c-8.4,8.4 r0.3
  circle w0.25: c-11.96,9.4 r0.125
  lines w0.2: -9.4,-9.4 -9.4,9.4 9.4,9.4 9.4,-9.4 -9.4,-9.4

## F-QFP24x24-G224/N [mm] "QFP; 224 Leads; Body 24 x 24 mm; Pitch 0.4 mm"
height 3.2
pads (224):
  rect 1.6x0.25 smd: 1(-12.6,11) 2(-12.6,10.6) 3(-12.6,10.2) 4(-12.6,9.8) 5(-12.6,9.4) 6(-12.6,9) 7(-12.6,8.6) 8(-12.6,8.2) 9(-12.6,7.8) 10(-12.6,7.4) 11(-12.6,7) 12(-12.6,6.6) 13(-12.6,6.2) 14(-12.6,5.8) 15(-12.6,5.4) 16(-12.6,5) 17(-12.6,4.6) 18(-12.6,4.2) 19(-12.6,3.8) 20(-12.6,3.4) 21(-12.6,3) 22(-12.6,2.6) 23(-12.6,2.2) 24(-12.6,1.8) 25(-12.6,1.4) 26(-12.6,1) 27(-12.6,0.6) 28(-12.6,0.2) 29(-12.6,-0.2) 30(-12.6,-0.6) 31(-12.6,-1) 32(-12.6,-1.4) 33(-12.6,-1.8) 34(-12.6,-2.2) 35(-12.6,-2.6) 36(-12.6,-3) 37(-12.6,-3.4) 38(-12.6,-3.8) 39(-12.6,-4.2) 40(-12.6,-4.6) 41(-12.6,-5) 42(-12.6,-5.4) 43(-12.6,-5.8) 44(-12.6,-6.2) 45(-12.6,-6.6) 46(-12.6,-7) 47(-12.6,-7.4) 48(-12.6,-7.8) 49(-12.6,-8.2) 50(-12.6,-8.6) 51(-12.6,-9) 52(-12.6,-9.4) 53(-12.6,-9.8) 54(-12.6,-10.2) 55(-12.6,-10.6) 56(-12.6,-11) 113(12.6,-11) 114(12.6,-10.6) 115(12.6,-10.2) 116(12.6,-9.8) 117(12.6,-9.4) 118(12.6,-9) 119(12.6,-8.6) 120(12.6,-8.2) 121(12.6,-7.8) 122(12.6,-7.4) 123(12.6,-7) 124(12.6,-6.6) 125(12.6,-6.2) 126(12.6,-5.8) 127(12.6,-5.4) 128(12.6,-5) 129(12.6,-4.6) 130(12.6,-4.2) 131(12.6,-3.8) 132(12.6,-3.4) 133(12.6,-3) 134(12.6,-2.6) 135(12.6,-2.2) 136(12.6,-1.8) 137(12.6,-1.4) 138(12.6,-1) 139(12.6,-0.6) 140(12.6,-0.2) 141(12.6,0.2) 142(12.6,0.6) 143(12.6,1) 144(12.6,1.4) 145(12.6,1.8) 146(12.6,2.2) 147(12.6,2.6) 148(12.6,3) 149(12.6,3.4) 150(12.6,3.8) 151(12.6,4.2) 152(12.6,4.6) 153(12.6,5) 154(12.6,5.4) 155(12.6,5.8) 156(12.6,6.2) 157(12.6,6.6) 158(12.6,7) 159(12.6,7.4) 160(12.6,7.8) 161(12.6,8.2) 162(12.6,8.6) 163(12.6,9) 164(12.6,9.4) 165(12.6,9.8) 166(12.6,10.2) 167(12.6,10.6) 168(12.6,11)
  rect 0.25x1.6 smd: 57(-11,-12.6) 58(-10.6,-12.6) 59(-10.2,-12.6) 60(-9.8,-12.6) 61(-9.4,-12.6) 62(-9,-12.6) 63(-8.6,-12.6) 64(-8.2,-12.6) 65(-7.8,-12.6) 66(-7.4,-12.6) 67(-7,-12.6) 68(-6.6,-12.6) 69(-6.2,-12.6) 70(-5.8,-12.6) 71(-5.4,-12.6) 72(-5,-12.6) 73(-4.6,-12.6) 74(-4.2,-12.6) 75(-3.8,-12.6) 76(-3.4,-12.6) 77(-3,-12.6) 78(-2.6,-12.6) 79(-2.2,-12.6) 80(-1.8,-12.6) 81(-1.4,-12.6) 82(-1,-12.6) 83(-0.6,-12.6) 84(-0.2,-12.6) 85(0.2,-12.6) 86(0.6,-12.6) 87(1,-12.6) 88(1.4,-12.6) 89(1.8,-12.6) 90(2.2,-12.6) 91(2.6,-12.6) 92(3,-12.6) 93(3.4,-12.6) 94(3.8,-12.6) 95(4.2,-12.6) 96(4.6,-12.6) 97(5,-12.6) 98(5.4,-12.6) 99(5.8,-12.6) 100(6.2,-12.6) 101(6.6,-12.6) 102(7,-12.6) 103(7.4,-12.6) 104(7.8,-12.6) 105(8.2,-12.6) 106(8.6,-12.6) 107(9,-12.6) 108(9.4,-12.6) 109(9.8,-12.6) 110(10.2,-12.6) 111(10.6,-12.6) 112(11,-12.6) 169(11,12.6) 170(10.6,12.6) 171(10.2,12.6) 172(9.8,12.6) 173(9.4,12.6) 174(9,12.6) 175(8.6,12.6) 176(8.2,12.6) 177(7.8,12.6) 178(7.4,12.6) 179(7,12.6) 180(6.6,12.6) 181(6.2,12.6) 182(5.8,12.6) 183(5.4,12.6) 184(5,12.6) 185(4.6,12.6) 186(4.2,12.6) 187(3.8,12.6) 188(3.4,12.6) 189(3,12.6) 190(2.6,12.6) 191(2.2,12.6) 192(1.8,12.6) 193(1.4,12.6) 194(1,12.6) 195(0.6,12.6) 196(0.2,12.6) 197(-0.2,12.6) 198(-0.6,12.6) 199(-1,12.6) 200(-1.4,12.6) 201(-1.8,12.6) 202(-2.2,12.6) 203(-2.6,12.6) 204(-3,12.6) 205(-3.4,12.6) 206(-3.8,12.6) 207(-4.2,12.6) 208(-4.6,12.6) 209(-5,12.6) 210(-5.4,12.6) 211(-5.8,12.6) 212(-6.2,12.6) 213(-6.6,12.6) 214(-7,12.6) 215(-7.4,12.6) 216(-7.8,12.6) 217(-8.2,12.6) 218(-8.6,12.6) 219(-9,12.6) 220(-9.4,12.6) 221(-9.8,12.6) 222(-10.2,12.6) 223(-10.6,12.6) 224(-11,12.6)
Top Overlay:
  circle w0.25: c-13.96,11 r0.125
  circle w0.6: c-10.4,10.4 r0.3
  lines w0.2: -11.4,-11.4 11.4,-11.4 11.4,11.4 -11.4,11.4 -11.4,-11.4

## F-QFP24x24-G232/N [mm] "QFP; 232 Leads; Body 24 x 24 mm; Pitch 0.4 mm"
height 3.2
pads (232):
  rect 1.6x0.25 smd: 1(-12.6,11.4) 2(-12.6,11) 3(-12.6,10.6) 4(-12.6,10.2) 5(-12.6,9.8) 6(-12.6,9.4) 7(-12.6,9) 8(-12.6,8.6) 9(-12.6,8.2) 10(-12.6,7.8) 11(-12.6,7.4) 12(-12.6,7) 13(-12.6,6.6) 14(-12.6,6.2) 15(-12.6,5.8) 16(-12.6,5.4) 17(-12.6,5) 18(-12.6,4.6) 19(-12.6,4.2) 20(-12.6,3.8) 21(-12.6,3.4) 22(-12.6,3) 23(-12.6,2.6) 24(-12.6,2.2) 25(-12.6,1.8) 26(-12.6,1.4) 27(-12.6,1) 28(-12.6,0.6) 29(-12.6,0.2) 30(-12.6,-0.2) 31(-12.6,-0.6) 32(-12.6,-1) 33(-12.6,-1.4) 34(-12.6,-1.8) 35(-12.6,-2.2) 36(-12.6,-2.6) 37(-12.6,-3) 38(-12.6,-3.4) 39(-12.6,-3.8) 40(-12.6,-4.2) 41(-12.6,-4.6) 42(-12.6,-5) 43(-12.6,-5.4) 44(-12.6,-5.8) 45(-12.6,-6.2) 46(-12.6,-6.6) 47(-12.6,-7) 48(-12.6,-7.4) 49(-12.6,-7.8) 50(-12.6,-8.2) 51(-12.6,-8.6) 52(-12.6,-9) 53(-12.6,-9.4) 54(-12.6,-9.8) 55(-12.6,-10.2) 56(-12.6,-10.6) 57(-12.6,-11) 58(-12.6,-11.4) 117(12.6,-11.4) 118(12.6,-11) 119(12.6,-10.6) 120(12.6,-10.2) 121(12.6,-9.8) 122(12.6,-9.4) 123(12.6,-9) 124(12.6,-8.6) 125(12.6,-8.2) 126(12.6,-7.8) 127(12.6,-7.4) 128(12.6,-7) 129(12.6,-6.6) 130(12.6,-6.2) 131(12.6,-5.8) 132(12.6,-5.4) 133(12.6,-5) 134(12.6,-4.6) 135(12.6,-4.2) 136(12.6,-3.8) 137(12.6,-3.4) 138(12.6,-3) 139(12.6,-2.6) 140(12.6,-2.2) 141(12.6,-1.8) 142(12.6,-1.4) 143(12.6,-1) 144(12.6,-0.6) 145(12.6,-0.2) 146(12.6,0.2) 147(12.6,0.6) 148(12.6,1) 149(12.6,1.4) 150(12.6,1.8) 151(12.6,2.2) 152(12.6,2.6) 153(12.6,3) 154(12.6,3.4) 155(12.6,3.8) 156(12.6,4.2) 157(12.6,4.6) 158(12.6,5) 159(12.6,5.4) 160(12.6,5.8) 161(12.6,6.2) 162(12.6,6.6) 163(12.6,7) 164(12.6,7.4) 165(12.6,7.8) 166(12.6,8.2) 167(12.6,8.6) 168(12.6,9) 169(12.6,9.4) 170(12.6,9.8) 171(12.6,10.2) 172(12.6,10.6) 173(12.6,11) 174(12.6,11.4)
  rect 0.25x1.6 smd: 59(-11.4,-12.6) 60(-11,-12.6) 61(-10.6,-12.6) 62(-10.2,-12.6) 63(-9.8,-12.6) 64(-9.4,-12.6) 65(-9,-12.6) 66(-8.6,-12.6) 67(-8.2,-12.6) 68(-7.8,-12.6) 69(-7.4,-12.6) 70(-7,-12.6) 71(-6.6,-12.6) 72(-6.2,-12.6) 73(-5.8,-12.6) 74(-5.4,-12.6) 75(-5,-12.6) 76(-4.6,-12.6) 77(-4.2,-12.6) 78(-3.8,-12.6) 79(-3.4,-12.6) 80(-3,-12.6) 81(-2.6,-12.6) 82(-2.2,-12.6) 83(-1.8,-12.6) 84(-1.4,-12.6) 85(-1,-12.6) 86(-0.6,-12.6) 87(-0.2,-12.6) 88(0.2,-12.6) 89(0.6,-12.6) 90(1,-12.6) 91(1.4,-12.6) 92(1.8,-12.6) 93(2.2,-12.6) 94(2.6,-12.6) 95(3,-12.6) 96(3.4,-12.6) 97(3.8,-12.6) 98(4.2,-12.6) 99(4.6,-12.6) 100(5,-12.6) 101(5.4,-12.6) 102(5.8,-12.6) 103(6.2,-12.6) 104(6.6,-12.6) 105(7,-12.6) 106(7.4,-12.6) 107(7.8,-12.6) 108(8.2,-12.6) 109(8.6,-12.6) 110(9,-12.6) 111(9.4,-12.6) 112(9.8,-12.6) 113(10.2,-12.6) 114(10.6,-12.6) 115(11,-12.6) 116(11.4,-12.6) 175(11.4,12.6) 176(11,12.6) 177(10.6,12.6) 178(10.2,12.6) 179(9.8,12.6) 180(9.4,12.6) 181(9,12.6) 182(8.6,12.6) 183(8.2,12.6) 184(7.8,12.6) 185(7.4,12.6) 186(7,12.6) 187(6.6,12.6) 188(6.2,12.6) 189(5.8,12.6) 190(5.4,12.6) 191(5,12.6) 192(4.6,12.6) 193(4.2,12.6) 194(3.8,12.6) 195(3.4,12.6) 196(3,12.6) 197(2.6,12.6) 198(2.2,12.6) 199(1.8,12.6) 200(1.4,12.6) 201(1,12.6) 202(0.6,12.6) 203(0.2,12.6) 204(-0.2,12.6) 205(-0.6,12.6) 206(-1,12.6) 207(-1.4,12.6) 208(-1.8,12.6) 209(-2.2,12.6) 210(-2.6,12.6) 211(-3,12.6) 212(-3.4,12.6) 213(-3.8,12.6) 214(-4.2,12.6) 215(-4.6,12.6) 216(-5,12.6) 217(-5.4,12.6) 218(-5.8,12.6) 219(-6.2,12.6) 220(-6.6,12.6) 221(-7,12.6) 222(-7.4,12.6) 223(-7.8,12.6) 224(-8.2,12.6) 225(-8.6,12.6) 226(-9,12.6) 227(-9.4,12.6) 228(-9.8,12.6) 229(-10.2,12.6) 230(-10.6,12.6) 231(-11,12.6) 232(-11.4,12.6)
Top Overlay:
  circle w0.25: c-13.96,11.4 r0.125
  circle w0.6: c-10.4,10.4 r0.3
  lines w0.2: -11.4,-11.4 11.4,-11.4 11.4,11.4 -11.4,11.4 -11.4,-11.4